# EAGLE library part TPSI3050DWZR (library ds_ic_peripherals)
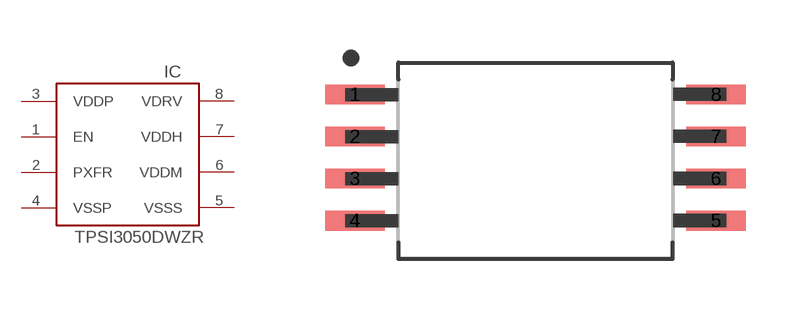
[diagram p66: symbol with the pads of SOIC8; footprint SOIC8]

Designator prefix IC

## TPSI3050DWZR (DATASHEET: https://www.ti.com/lit/ds/symlink/tpsi3050.pdf; DESCRIPTION: -40℃~+150℃@(Tj) 1.5A 100kV/us 3000 36uA 3A 5ns 6ns SOIC-8 Isolators - Gate Drivers ROHS; LCSC_PART: C17227641; MAUFACTURER: Texas Instruments; MPN: TPSI3050DWZR; ROHS: YES; VALUE: TPSI3050DWZR)  [SOIC8]
1  EN  in
2  PXFR  out
3  VDDP  pwr
4  VSSP  pwr
5  VSSS  pwr
6  VDDM  out
7  VDDH  out
8  VDRV  pwr

## Footprint SOIC8 (pad centres in mm)
8-SOIC, 1.27 mm pitch, 7.70 mm span, 5.13 X 5.18 X 1.70 mm body 8-pin SOIC package with 1.27 mm pitch, 7.70 mm span with body size 5.13 X 5.18 X 1.70 mm
smd 1.8 x 0.6: 1 -3.405,1.905; 2 -3.405,0.635; 3 -3.405,-0.635; 4 -3.405,-1.905; 5 7.505,-1.905; 6 7.505,-0.635; 7 7.505,0.635; 8 7.505,1.905